# Altium schematic symbol library LM3102.SchLib: 1 symbol
Pins are listed as number, name and electrical type; pins without a type are passive.

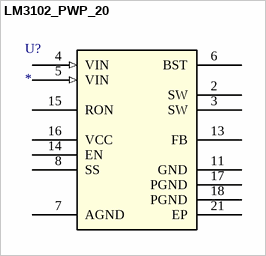
[diagram p0: symbol LM3102_PWP_20]

## LM3102_PWP_20
designator U?
SIMPLE SWITCHER® Synchronous 1-MHz, 2.5-A Step-Down Voltage Regulator; Manufacturer: Texas Instruments; Manufacturer_Part_Number: lm3102_pwp_20; basePN: LM3102; NSC_PackageReference: MXA20A; DatasheetURL: http://www.ti.com/lit/ds/symlink/lm3102.pdf; Vendor: Texas Instruments; RefDes: RefDes; Type: DEV; Value: Value
footprint MXA20A
pins: 2 SW, 3 SW, 4 VIN (in), 5 VIN (in), 6 BST, 7 AGND (power), 8 SS, 11 GND (power), 13 FB, 14 EN, 15 RON, 16 VCC (power), 17 PGND (power), 18 PGND (power), 21 EP